# Altium schematic symbol library 5019.SchLib: 1 symbol
Pins are listed as number, name and electrical type; pins without a type are passive.

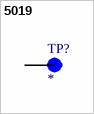
[diagram p0: symbol 5019]

## 5019
designator TP?
Test Point, Mini, SMT, Phos Bronze/Silver, 1000pc Tape & Reel | Keystone Electronics 5019; MP: 5019; SnapEDA_Link: https://www.snapeda.com/parts/5019/Keystone/view-part/?ref=snap; Package: NON STANDARD-1 Keystone; Value: *; MF: Keystone Electronics; Check_prices: https://www.snapeda.com/parts/5019/Keystone/view-part/?ref=eda
footprint KEYSTONE_5019
pins: TP